# Altium schematic symbol library ic-gate-driver.SchLib: 17 symbols
Pins are listed as number, name and electrical type; pins without a type are passive.

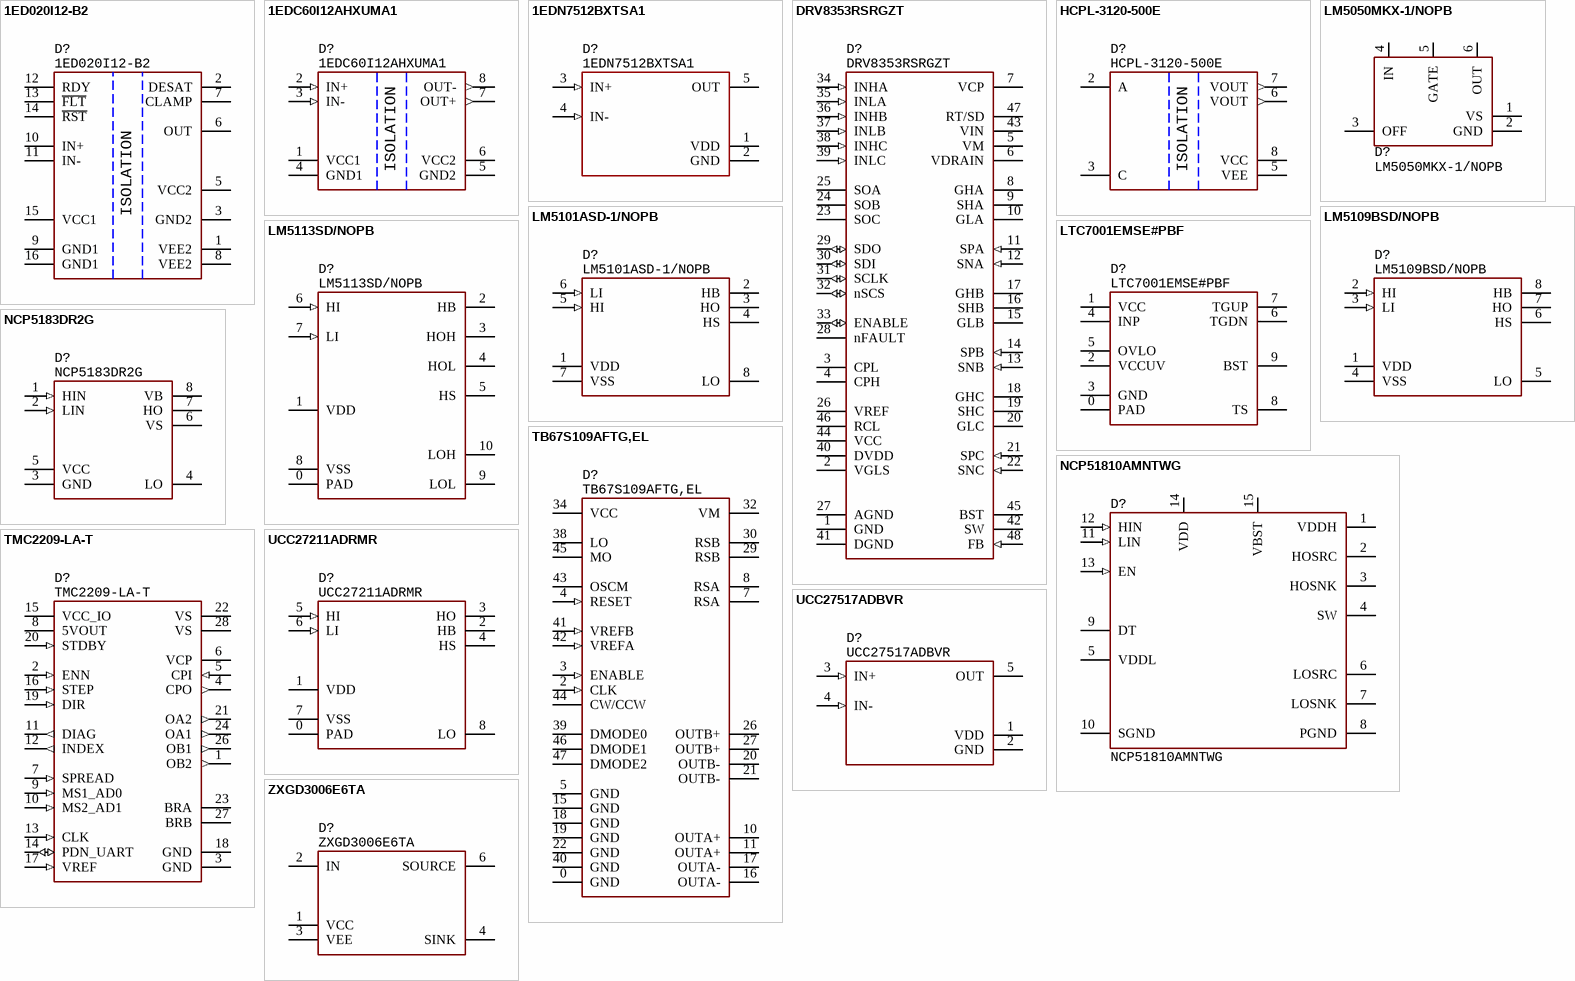
[diagram p0: symbols 1ED020I12-B2 to ZXGD3006E6TA]

## 1ED020I12-B2
designator D?
Isolator, IGBT/SiC, 2A, 350 ns, supply 4.5...20V, TSSOP-16, -40...+125°C; Manufacturer: Infineon; HelpURL: https://eu.mouser.com/ProductDetail/Infineon-Technologies/1ED020I12-B2?qs=SxJJk0kk1p9Jwv3JdBgdAg%3D%3D; Package: TSSOP-16; PartNumber: 1ED020I12-B2
footprint 16-TSSOP (pitch 1.27 mm)
pins: 1 VEE2, 2 DESAT, 3 GND2, 5 VCC2, 6 OUT, 7 CLAMP, 8 VEE2, 9 GND1, 10 IN+, 11 IN-, 12 RDY, 13 ~{FLT}, 14 ~{RST}, 15 VCC1, 16 GND1
text: ISOLATION

## 1EDC60I12AHXUMA1
designator D?
Isolator, 6/-10A, supply 3.1...17V, 9 ns, SOIC-8, -40...+125°C; Manufacturer: Infineon; HelpURL: https://eu.mouser.com/ProductDetail/Infineon-Technologies/1EDC60I12AHXUMA1?qs=xhbEVWpZdWe0wD1JWnBIzA%3D%3D; Package: SOIC-8; PartNumber: 1EDC60I12AHXUMA1
footprint 8-SOIC-W (pitch 1.27 mm, isolator)
pins: 1 VCC1, 2 IN+ (in), 3 IN- (in), 4 GND1, 5 GND2, 6 VCC2, 7 OUT+ (out), 8 OUT- (out)
text: ISOLATION

## 1EDN7512BXTSA1
designator D?
Low side, 8A, supply 4.5...20V, 4.5 ns, SOT23-5, -40...+125°C; Manufacturer: Infineon; HelpURL: https://eu.mouser.com/ProductDetail/Infineon-Technologies/1EDN7512BXTSA1?qs=lzj%2F%2FGTHgyjPI6P0aBMi9Q%3D%3D; Package: SOT23-5; PartNumber: 1EDN7512BXTSA1
footprint SOT23-5 (pitch 0.95 mm)
pins: 1 VDD, 2 GND, 3 IN+ (in), 4 IN- (in), 5 OUT

## DRV8353RSRGZT
designator D?
BLDC/PMSM driver, 6...95V, SPI/I2C, up to 200 kHz, VQFN-48, -40...+125°C; Manufacturer: Texas Instruments; HelpURL: https://eu.mouser.com/ProductDetail/Texas-Instruments/DRV8353RSRGZT?qs=lc2O%252BfHJPVbHu9tQKbCuSg%3D%3D; Package: VQFN-48; PartNumber: DRV8353RSRGZT
footprint 48-QFN (7x7, pitch 0.5) (7x7 mm, pitch 0.5 mm, power pad)
pins: 1 GND, 2 VGLS, 3 CPL, 4 CPH, 5 VM, 6 VDRAIN, 7 VCP, 8 GHA, 9 SHA, 10 GLA, 11 SPA (in), 12 SNA (in), 13 SNB (in), 14 SPB (in), 15 GLB, 16 SHB, 17 GHB, 18 GHC, 19 SHC, 20 GLC, 21 SPC (in), 22 SNC (in), 23 SOC, 24 SOB, 25 SOA, 26 VREF, 27 AGND, 28 nFAULT, 29 SDO (io), 30 SDI (io), 31 SCLK (io), 32 nSCS (io), 33 ENABLE (io), 34 INHA (in), 35 INLA (in), 36 INHB (in), 37 INLB (in), 38 INHC (in), 39 INLC (in), 40 DVDD, 41 DGND, 42 SW, 43 VIN, 44 VCC, 45 BST, 46 RCL, 47 RT/SD, 48 FB (in)

## HCPL-3120-500E
designator D?
Isolator, 2.5A, 3750 Vrms, 100 ns, supply 15...30V, SMD-8, -40...+125°C; Manufacturer: Avago; HelpURL: https://eu.mouser.com/ProductDetail/Broadcom-Avago/HCPL-3120-500E?qs=s%252BgfxR24RQ6eiLdg9xpQRg%3D%3D; Package: SMD-8; PartNumber: HCPL-3120-500E
footprint IC: HCPL-3120
pins: 2 A, 3 C, 5 VEE, 6 VOUT (out), 7 VOUT (out), 8 VCC
text: ISOLATION

## LM5050MKX-1/NOPB
designator D?
Ideal diode, 2A peak, 486ns, supply 5...75V, SOT-23-6, -40...+125°C; Manufacturer: Texas Instruments; Manufacturer: TI National Semiconductor; Package: SOT-23-6; HelpURL: https://www.digikey.com/product-detail/en/texas-instruments/LM5050MKX-1-NOPB/296-46427-1-ND/7033600; Manufacturer Part Number: LM5050MKX-1/NOPB; Component Type: Power Supply; PartNumber: LM5050MKX-1/NOPB
footprint SOT23-6 (pitch 0.95 mm)
pins: 1 VS, 2 GND, 3 OFF, 4 IN, 5 GATE, 6 OUT

## LM5101ASD-1/NOPB
designator D?
Half bridge, 3A, supply 9...14V, 10 ns, WSON-8, -40...+125°C; Manufacturer: Texas Instruments; HelpURL: https://eu.mouser.com/ProductDetail/Texas-Instruments/LM5101ASD-1-NOPB?qs=QbsRYf82W3HsS%2Fshr1WHJQ%3D%3D; Package: WSON-8; PartNumber: LM5101ASD-1/NOPB
footprint 8-WSON (4x4) (4x4 mm, pitch 0.8 mm, power pad)
pins: 1 VDD, 2 HB, 3 HO, 4 HS, 5 HI (in), 6 LI (in), 7 VSS, 8 LO

## LM5109BSD/NOPB
designator D?
Half bridge, 1A, supply 8...14V, 15 ns, WSON-8, -40...+125°C; Manufacturer: Texas Instruments; HelpURL: https://eu.mouser.com/ProductDetail/Texas-Instruments/LM5109BSD-NOPB?qs=QbsRYf82W3Gksst44udN8Q%3D%3D; Package: WSON-8; PartNumber: LM5109BSD/NOPB
footprint 8-WSON (4x4) (4x4 mm, pitch 0.8 mm, power pad)
pins: 1 VDD, 2 HI (in), 3 LI (in), 4 VSS, 5 LO, 6 HS, 7 HO, 8 HB

## LM5113SD/NOPB
designator D?
Half bridge, GaN, 1A, 100V, supply 4.5...5.5V, 7 ns, WSON-10, -40...+125°C; Manufacturer: Texas Instruments; HelpURL: https://eu.mouser.com/ProductDetail/Texas-Instruments/LM5109BSD-NOPB?qs=QbsRYf82W3Gksst44udN8Q%3D%3D; Package: WSON-10; PartNumber: LM5113SD/NOPB
footprint 10-WSON (4x4, pitch 0.8 mm) (4x4 mm, pitch 0.8 mm, power pad)
pins: 0 PAD, 1 VDD, 2 HB, 3 HOH, 4 HOL, 5 HS, 6 HI (in), 7 LI (in), 8 VSS, 9 LOL, 10 LOH

## LTC7001EMSE#PBF
designator D?
High side, 135V, 40/90 ns, MSOP-10, -40...+125°C; Manufacturer: Analog Devices; HelpURL: https://eu.mouser.com/ProductDetail/Analog-Devices/LTC7001EMSEPBF?qs=BZBei1rCqCDffAMQwGwGFw%3D%3D; Package: MSOP-10; PartNumber: LTC7001EMSE#PBF
footprint 10-MSOP-PAD (3x3 mm, pitch 0.5 mm)
pins: 0 PAD, 1 VCC, 2 VCCUV, 3 GND, 4 INP, 5 OVLO, 6 TGDN, 7 TGUP, 8 TS, 9 BST

## NCP5183DR2G
designator D?
Half bridge, 4.3A, supply 9...18V, 12 ns, SOIC-8, -40...+125°C; Manufacturer: ON Semiconductor; HelpURL: https://eu.mouser.com/ProductDetail/onsemi/NCP5183DR2G?qs=5aG0NVq1C4ww8ftY7z2%252BaQ%3D%3D; Package: SOIC-10; PartNumber: NCP5183DR2G
footprint 8-SOIC (pitch 1.27 mm)
pins: 1 HIN (in), 2 LIN (in), 3 GND, 4 LO, 5 VCC, 6 VS, 7 HO, 8 VB

## NCP51810AMNTWG
designator D?
Half-Bridge, 150V, ±2A, QFN-15, supply 9...17V, -40...+125°C; Manufacturer: ON Semiconductor; Package: QFN-15; HelpURL: https://ru.mouser.com/ProductDetail/onsemi/NCP51810AMNTWG?qs=%2Fha2pyFaduiD7PpO0xkzN3G456%252BtEbIOf9p87Tk09x0%3D; PartNumber: NCP51810AMNTWG
footprint 15-QFN (4x4, pitch 0.5) (4x4 mm, pitch 0.5 mm, power pad)
pins: 1 VDDH, 2 HOSRC, 3 HOSNK, 4 SW, 5 VDDL, 6 LOSRC, 7 LOSNK, 8 PGND, 9 DT, 10 SGND, 11 LIN (in), 12 HIN (in), 13 EN (in), 14 VDD, 15 VBST

## TB67S109AFTG,EL
designator D?
Stepper motor driver, 4A, supply 10...47V, QFN-48, -40...+125°C; Manufacturer: Toshiba; HelpURL: https://eu.mouser.com/ProductDetail/Toshiba/TB67S109AFTGEL?qs=Zwj7mHVHPHSZmJZMrdxt0w%3D%3D; Package: QFN-48; PartNumber: TB67S109AFTG,EL
footprint 48-QFN (7x7, pitch 0.5) (7x7 mm, pitch 0.5 mm, power pad)
pins: 0 GND, 2 CLK (in), 3 ENABLE (in), 4 RESET (in), 5 GND, 7 RSA, 8 RSA, 10 OUTA+, 11 OUTA+, 15 GND, 16 OUTA-, 17 OUTA-, 18 GND, 19 GND, 20 OUTB-, 21 OUTB-, 22 GND, 26 OUTB+, 27 OUTB+, 29 RSB, 30 RSB, 32 VM (power), 34 VCC (power), 38 LO, 39 DMODE0, 40 GND, 41 VREFB (in), 42 VREFA (in), 43 OSCM, 44 CW/CCW, 45 MO, 46 DMODE1, 47 DMODE2

## TMC2209-LA-T
designator D?
Stepper motor driver, 2.8A, supply 6...29V, 1.4W, QFN-28, -40...+125°C; Manufacturer: Trinamic; HelpURL: https://eu.mouser.com/ProductDetail/Trinamic/TMC2209-LA-T?qs=TiOZkKH1s2Qz5AVGoa6OOQ%3D%3D; Package: QFN-28; PartNumber: TMC2209-LA-T
footprint 28-QFN (5x5, pitch 0.5) (5x5 mm, pitch 0.5 mm, power pad)
pins: 1 OB2 (out), 2 ENN (in), 3 GND, 4 CPO (out), 5 CPI (in), 6 VCP, 7 SPREAD (in), 8 5VOUT (power), 9 MS1_AD0 (in), 10 MS2_AD1 (in), 11 DIAG (out), 12 INDEX (out), 13 CLK (in), 14 PDN_UART (io), 15 VCC_IO (power), 16 STEP (in), 17 VREF (in), 18 GND, 19 DIR (in), 20 STDBY (in), 21 OA2 (out), 22 VS (power), 23 BRA, 24 OA1 (out), 26 OB1 (out), 27 BRB, 28 VS (power)

## UCC27211ADRMR
designator D?
Half bridge, 4A, 120V, supply 8...17V, WSON-8, -40...+125°C; Manufacturer: Texas Instruments; HelpURL: https://eu.mouser.com/ProductDetail/Texas-Instruments/UCC27211ADRMR?qs=e5T%2FzGlhGObdcw90fSRe8g%3D%3D; Package: WSON-8; PartNumber: UCC27211ADRMR
footprint 8-WSON (4x4) (4x4 mm, pitch 0.8 mm, power pad)
pins: 0 PAD, 1 VDD, 2 HB, 3 HO, 4 HS, 5 HI (in), 6 LI (in), 7 VSS, 8 LO

## UCC27517ADBVR
designator D?
Low side, 4A, supply 4.5...18V, 7 ns, SOT23-5, -40...+125°C; Manufacturer: Texas Instruments; HelpURL: https://eu.mouser.com/ProductDetail/Texas-Instruments/UCC27517ADBVR?qs=e5T%2FzGlhGOZhJZidb%252B7EgQ%3D%3D; Package: SOT23-5; PartNumber: UCC27517ADBVR
footprint SOT23-5 (pitch 0.95 mm)
pins: 1 VDD, 2 GND, 3 IN+ (in), 4 IN- (in), 5 OUT

## ZXGD3006E6TA
designator D?
Low side, 10A, 40V, 208/53 ns, SOT23-6, -55...+150°C; Manufacturer: Diodes; HelpURL: https://eu.mouser.com/ProductDetail/Diodes-Incorporated/ZXGD3006E6TA?qs=MKoP7Oyr0W7VtlUUvDq9IA%3D%3D; Package: SOT23-6; PartNumber: ZXGD3006E6TA
footprint SOT23-6 (pitch 0.95 mm)
pins: 1 VCC, 2 IN, 3 VEE, 4 SINK, 6 SOURCE